# Altium footprint library Screen.PcbLib: 18 footprints (part 2 of 2)
Each footprint in its own frame and in the unit in brackets; x right, y up, seen from the top. Pads: shape width x height; smd on the part's side, far side on the other; paste and mask are expansions set on the pad; w line width, h text height; cw(c..) or ccw(c..) is an arc to the next point about the centre after c.
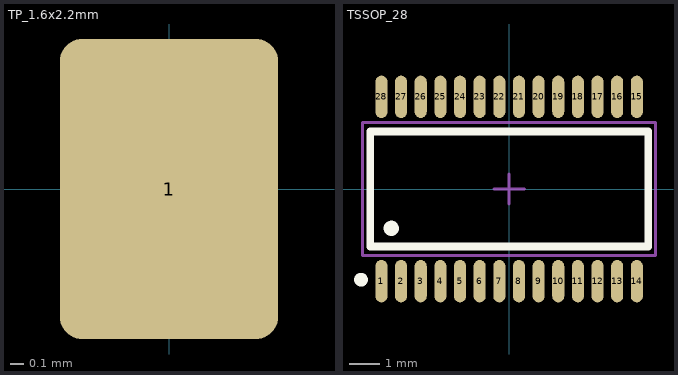
[diagram p1: the footprints below, top view; thin cyan lines are the x and y axes]

## TP_1.6x2.2mm [mm]
pads (1):
  rrect20% 1.6x2.2 smd: 1(0,0)

## TSSOP_28 [mm] "0.65"
pads (28):
  oval 0.4x1.4 smd: 1(-4.225,-3.05) 2(-3.575,-3.05) 3(-2.925,-3.05) 4(-2.275,-3.05) 5(-1.625,-3.05) 6(-0.975,-3.05) 7(-0.325,-3.05) 8(0.325,-3.05) 9(0.975,-3.05) 10(1.625,-3.05) 11(2.275,-3.05) 12(2.925,-3.05) 13(3.575,-3.05) 14(4.225,-3.05) 15(4.225,3.05) 16(3.575,3.05) 17(2.925,3.05) 18(2.275,3.05) 19(1.625,3.05) 20(0.975,3.05) 21(0.325,3.05) 22(-0.325,3.05) 23(-0.975,3.05) 24(-1.625,3.05) 25(-2.275,3.05) 26(-2.925,3.05) 27(-3.575,3.05) 28(-4.225,3.05)
Top Overlay:
  circle w0.254: c-4.9,-3 r0.1
  circle w0.3: c-3.9,-1.3 r0.1
  lines w0.254: -4.6,-1.9 -4.6,1.9 4.6,1.9 4.6,-1.9 -4.6,-1.9
Mechanical 15:
  lines w0.1: -0.5,0 0.5,0 ; 0,-0.5 0,0.5 ; -4.85,-2.2 -4.85,2.2 4.85,2.2 4.85,-2.2 -4.85,-2.2
3D body "TSSOP-28.STEP": height 1.2, standoff 0, extent -4.85,-3.2 4.85,3.2